# Altium integrated library STMicroelectronics Sensors & MEMS.IntLib: 81 symbols (part 2 of 2)
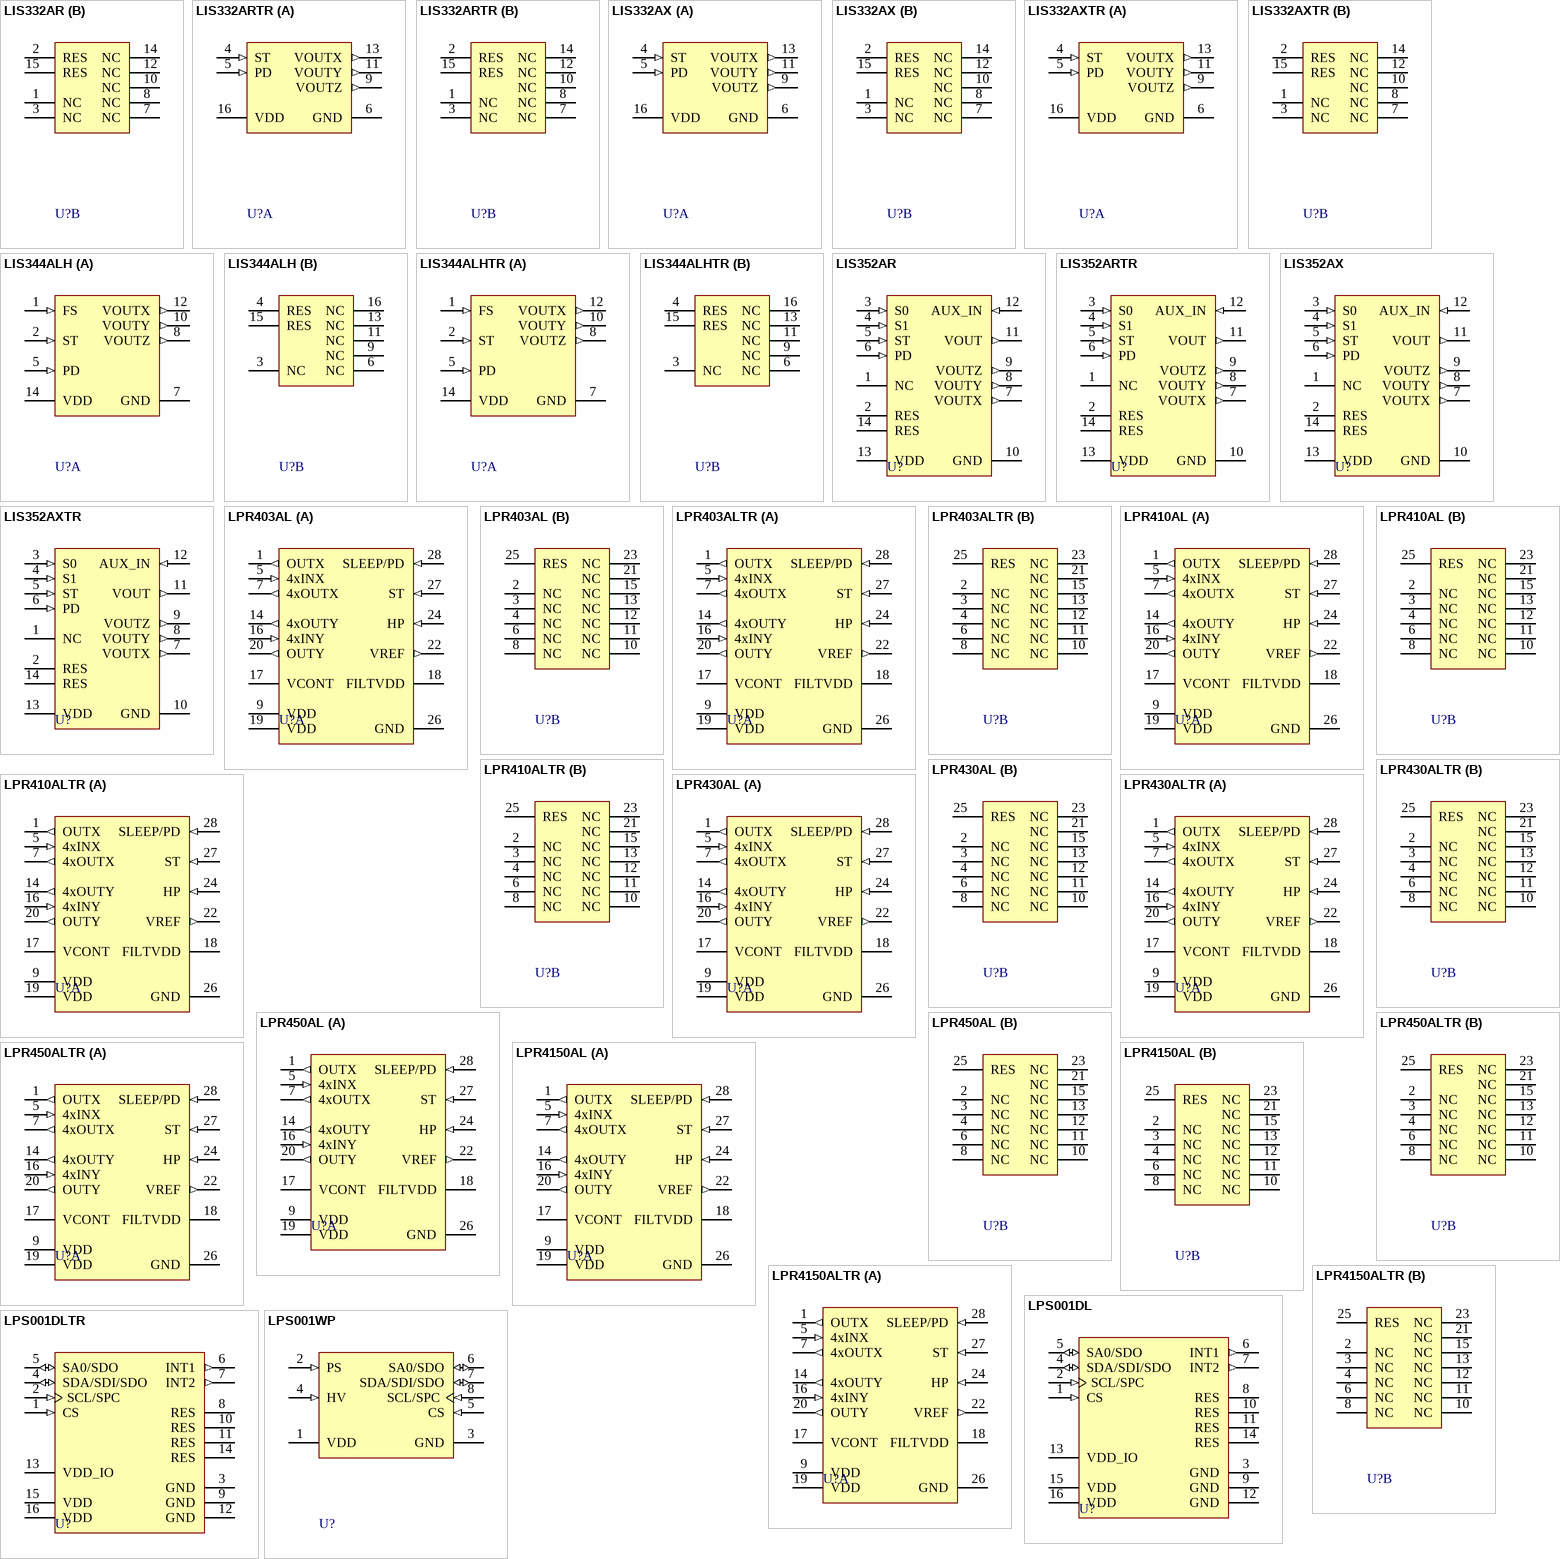
[diagram p4: symbols LIS332AR to LPS001WP]

## LPR410AL
designator U?
MEMS motion sensor: dual-axis pitch and roll ± 100 dps analog gyroscope, -40 to +85°C, LGA-28 (4x5x1), Tray; Manufacturer: STMicroelectronics; DatasheetVersion: rev1, Oct-2009; PackageVersion: 2009; PackageReference: LGA28-4X5X1.1; PackageDescription: 28-Lead Land Grid Array Package, 4 x 5 x 1 mm Body, 0.5 mm Pitch; ComponentLink1Description: Manufacturer URL; ComponentLink1URL: http://www.st.com/; ComponentLink2Description: LPR410AL Datasheet; ComponentLink2URL: http://www.st.com/internet/com/TECHNICAL_RESOURCES/TECHNICAL_LITERATURE/DATASHEET/CD00254123.pdf; ComponentLink3Description: LPR410AL Web Page; ComponentLink3URL: http://www.st.com/internet/analog/product/248621.jsp
footprint LGA28-4X5X1.1_N (PQFN, 28-Leads, Body 5x4mm, Pitch 0.5mm, IPC Medium Density)
footprint LGA28-4X5X1.1_L (PQFN, 28-Leads, Body 5x4mm, Pitch 0.5mm, IPC High Density)
footprint LGA28-4X5X1.1_M (PQFN, 28-Leads, Body 5x4mm, Pitch 0.5mm, IPC Low Density)
part A pins: 1 OUTX (out), 5 4xINX (in), 7 4xOUTX (out), 9 VDD (power), 14 4xOUTY (out), 16 4xINY (in), 17 VCONT, 18 FILTVDD, 19 VDD (power), 20 OUTY (out), 22 VREF (out), 24 HP (in), 26 GND (power), 27 ST (in), 28 SLEEP/PD (in)
part B pins: 2 NC, 3 NC, 4 NC, 6 NC, 8 NC, 10 NC, 11 NC, 12 NC, 13 NC, 15 NC, 21 NC, 23 NC, 25 RES

## LPR410ALTR
designator U?
MEMS motion sensor: dual-axis pitch and roll ± 100 dps analog gyroscope, -40 to +85°C, LGA-28 (4x5x1), Tape and Reel; Manufacturer: STMicroelectronics; DatasheetVersion: rev1, Oct-2009; PackageVersion: 2009; PackageReference: LGA28-4X5X1.1; PackageDescription: 28-Lead Land Grid Array Package, 4 x 5 x 1 mm Body, 0.5 mm Pitch; ComponentLink1Description: Manufacturer URL; ComponentLink1URL: http://www.st.com/; ComponentLink2Description: LPR410AL Datasheet; ComponentLink2URL: http://www.st.com/internet/com/TECHNICAL_RESOURCES/TECHNICAL_LITERATURE/DATASHEET/CD00254123.pdf; ComponentLink3Description: LPR410AL Web Page; ComponentLink3URL: http://www.st.com/internet/analog/product/248621.jsp
footprint LGA28-4X5X1.1_N (PQFN, 28-Leads, Body 5x4mm, Pitch 0.5mm, IPC Medium Density)
footprint LGA28-4X5X1.1_L (PQFN, 28-Leads, Body 5x4mm, Pitch 0.5mm, IPC High Density)
footprint LGA28-4X5X1.1_M (PQFN, 28-Leads, Body 5x4mm, Pitch 0.5mm, IPC Low Density)
part A pins: 1 OUTX (out), 5 4xINX (in), 7 4xOUTX (out), 9 VDD (power), 14 4xOUTY (out), 16 4xINY (in), 17 VCONT, 18 FILTVDD, 19 VDD (power), 20 OUTY (out), 22 VREF (out), 24 HP (in), 26 GND (power), 27 ST (in), 28 SLEEP/PD (in)
part B pins: 2 NC, 3 NC, 4 NC, 6 NC, 8 NC, 10 NC, 11 NC, 12 NC, 13 NC, 15 NC, 21 NC, 23 NC, 25 RES

## LPR430AL
designator U?
MEMS motion sensor: dual-axis pitch and roll ± 300 dps analog gyroscope, -40 to +85°C, LGA-28 (4x5x1), Tray; Manufacturer: STMicroelectronics; DatasheetVersion: rev1, Oct-2009; PackageVersion: 2009; PackageReference: LGA28-4X5X1.1; PackageDescription: 28-Lead Land Grid Array Package, 4 x 5 x 1 mm Body, 0.5 mm Pitch; ComponentLink1Description: Manufacturer URL; ComponentLink1URL: http://www.st.com/; ComponentLink2Description: LPR430AL Datasheet; ComponentLink2URL: http://www.st.com/internet/com/TECHNICAL_RESOURCES/TECHNICAL_LITERATURE/DATASHEET/CD00254127.pdf; ComponentLink3Description: LPR430AL Web Page; ComponentLink3URL: http://www.st.com/internet/analog/product/248610.jsp
footprint LGA28-4X5X1.1_N (PQFN, 28-Leads, Body 5x4mm, Pitch 0.5mm, IPC Medium Density)
footprint LGA28-4X5X1.1_L (PQFN, 28-Leads, Body 5x4mm, Pitch 0.5mm, IPC High Density)
footprint LGA28-4X5X1.1_M (PQFN, 28-Leads, Body 5x4mm, Pitch 0.5mm, IPC Low Density)
part A pins: 1 OUTX (out), 5 4xINX (in), 7 4xOUTX (out), 9 VDD (power), 14 4xOUTY (out), 16 4xINY (in), 17 VCONT, 18 FILTVDD, 19 VDD (power), 20 OUTY (out), 22 VREF (out), 24 HP (in), 26 GND (power), 27 ST (in), 28 SLEEP/PD (in)
part B pins: 2 NC, 3 NC, 4 NC, 6 NC, 8 NC, 10 NC, 11 NC, 12 NC, 13 NC, 15 NC, 21 NC, 23 NC, 25 RES

## LPR430ALTR
designator U?
MEMS motion sensor: dual-axis pitch and roll ± 300 dps analog gyroscope, -40 to +85°C, LGA-28 (4x5x1), Tape and Reel; Manufacturer: STMicroelectronics; DatasheetVersion: rev1, Oct-2009; PackageVersion: 2009; PackageReference: LGA28-4X5X1.1; PackageDescription: 28-Lead Land Grid Array Package, 4 x 5 x 1 mm Body, 0.5 mm Pitch; ComponentLink1Description: Manufacturer URL; ComponentLink1URL: http://www.st.com/; ComponentLink2Description: LPR430AL Datasheet; ComponentLink2URL: http://www.st.com/internet/com/TECHNICAL_RESOURCES/TECHNICAL_LITERATURE/DATASHEET/CD00254127.pdf; ComponentLink3Description: LPR430AL Web Page; ComponentLink3URL: http://www.st.com/internet/analog/product/248610.jsp
footprint LGA28-4X5X1.1_N (PQFN, 28-Leads, Body 5x4mm, Pitch 0.5mm, IPC Medium Density)
footprint LGA28-4X5X1.1_L (PQFN, 28-Leads, Body 5x4mm, Pitch 0.5mm, IPC High Density)
footprint LGA28-4X5X1.1_M (PQFN, 28-Leads, Body 5x4mm, Pitch 0.5mm, IPC Low Density)
part A pins: 1 OUTX (out), 5 4xINX (in), 7 4xOUTX (out), 9 VDD (power), 14 4xOUTY (out), 16 4xINY (in), 17 VCONT, 18 FILTVDD, 19 VDD (power), 20 OUTY (out), 22 VREF (out), 24 HP (in), 26 GND (power), 27 ST (in), 28 SLEEP/PD (in)
part B pins: 2 NC, 3 NC, 4 NC, 6 NC, 8 NC, 10 NC, 11 NC, 12 NC, 13 NC, 15 NC, 21 NC, 23 NC, 25 RES

## LPR450AL
designator U?
MEMS motion sensor: dual-axis pitch and roll ± 500 dps analog gyroscope, -40 to +85°C, LGA-28 (4x5x1), Tray; Manufacturer: STMicroelectronics; DatasheetVersion: rev1, Oct-2009; PackageVersion: 2009; PackageReference: LGA28-4X5X1.1; PackageDescription: 28-Lead Land Grid Array Package, 4 x 5 x 1 mm Body, 0.5 mm Pitch; ComponentLink1Description: Manufacturer URL; ComponentLink1URL: http://www.st.com/; ComponentLink2Description: LPR450AL Datasheet; ComponentLink2URL: http://www.st.com/internet/com/TECHNICAL_RESOURCES/TECHNICAL_LITERATURE/DATASHEET/CD00254130.pdf; ComponentLink3Description: LPR450AL Web Page; ComponentLink3URL: http://www.st.com/internet/analog/product/248611.jsp
footprint LGA28-4X5X1.1_N (PQFN, 28-Leads, Body 5x4mm, Pitch 0.5mm, IPC Medium Density)
footprint LGA28-4X5X1.1_L (PQFN, 28-Leads, Body 5x4mm, Pitch 0.5mm, IPC High Density)
footprint LGA28-4X5X1.1_M (PQFN, 28-Leads, Body 5x4mm, Pitch 0.5mm, IPC Low Density)
part A pins: 1 OUTX (out), 5 4xINX (in), 7 4xOUTX (out), 9 VDD (power), 14 4xOUTY (out), 16 4xINY (in), 17 VCONT, 18 FILTVDD, 19 VDD (power), 20 OUTY (out), 22 VREF (out), 24 HP (in), 26 GND (power), 27 ST (in), 28 SLEEP/PD (in)
part B pins: 2 NC, 3 NC, 4 NC, 6 NC, 8 NC, 10 NC, 11 NC, 12 NC, 13 NC, 15 NC, 21 NC, 23 NC, 25 RES

## LPR450ALTR
designator U?
MEMS motion sensor: dual-axis pitch and roll ± 500 dps analog gyroscope, -40 to +85°C, LGA-28 (4x5x1), Tape and Reel; Manufacturer: STMicroelectronics; DatasheetVersion: rev1, Oct-2009; PackageVersion: 2009; PackageReference: LGA28-4X5X1.1; PackageDescription: 28-Lead Land Grid Array Package, 4 x 5 x 1 mm Body, 0.5 mm Pitch; ComponentLink1Description: Manufacturer URL; ComponentLink1URL: http://www.st.com/; ComponentLink2Description: LPR450AL Datasheet; ComponentLink2URL: http://www.st.com/internet/com/TECHNICAL_RESOURCES/TECHNICAL_LITERATURE/DATASHEET/CD00254130.pdf; ComponentLink3Description: LPR450AL Web Page; ComponentLink3URL: http://www.st.com/internet/analog/product/248611.jsp
footprint LGA28-4X5X1.1_N (PQFN, 28-Leads, Body 5x4mm, Pitch 0.5mm, IPC Medium Density)
footprint LGA28-4X5X1.1_L (PQFN, 28-Leads, Body 5x4mm, Pitch 0.5mm, IPC High Density)
footprint LGA28-4X5X1.1_M (PQFN, 28-Leads, Body 5x4mm, Pitch 0.5mm, IPC Low Density)
part A pins: 1 OUTX (out), 5 4xINX (in), 7 4xOUTX (out), 9 VDD (power), 14 4xOUTY (out), 16 4xINY (in), 17 VCONT, 18 FILTVDD, 19 VDD (power), 20 OUTY (out), 22 VREF (out), 24 HP (in), 26 GND (power), 27 ST (in), 28 SLEEP/PD (in)
part B pins: 2 NC, 3 NC, 4 NC, 6 NC, 8 NC, 10 NC, 11 NC, 12 NC, 13 NC, 15 NC, 21 NC, 23 NC, 25 RES

## LPR4150AL
designator U?
MEMS motion sensor: dual-axis pitch and roll ± 1500 dps analog gyroscope, -40 to +85°C, LGA-28 (4x5x1), Tray; Manufacturer: STMicroelectronics; DatasheetVersion: rev1, Oct-2009; PackageVersion: 2009; PackageReference: LGA28-4X5X1.1; PackageDescription: 28-Lead Land Grid Array Package, 4 x 5 x 1 mm Body, 0.5 mm Pitch; ComponentLink1Description: Manufacturer URL; ComponentLink1URL: http://www.st.com/; ComponentLink2Description: LPR4150AL Datasheet; ComponentLink2URL: http://www.st.com/internet/com/TECHNICAL_RESOURCES/TECHNICAL_LITERATURE/DATASHEET/CD00254134.pdf; ComponentLink3Description: LPR4150AL Web Page; ComponentLink3URL: http://www.st.com/internet/analog/product/248612.jsp
footprint LGA28-4X5X1.1_N (PQFN, 28-Leads, Body 5x4mm, Pitch 0.5mm, IPC Medium Density)
footprint LGA28-4X5X1.1_L (PQFN, 28-Leads, Body 5x4mm, Pitch 0.5mm, IPC High Density)
footprint LGA28-4X5X1.1_M (PQFN, 28-Leads, Body 5x4mm, Pitch 0.5mm, IPC Low Density)
part A pins: 1 OUTX (out), 5 4xINX (in), 7 4xOUTX (out), 9 VDD (power), 14 4xOUTY (out), 16 4xINY (in), 17 VCONT, 18 FILTVDD, 19 VDD (power), 20 OUTY (out), 22 VREF (out), 24 HP (in), 26 GND (power), 27 ST (in), 28 SLEEP/PD (in)
part B pins: 2 NC, 3 NC, 4 NC, 6 NC, 8 NC, 10 NC, 11 NC, 12 NC, 13 NC, 15 NC, 21 NC, 23 NC, 25 RES

## LPR4150ALTR
designator U?
MEMS motion sensor: dual-axis pitch and roll ± 1500 dps analog gyroscope, -40 to +85°C, LGA-28 (4x5x1), Tape and Reel; Manufacturer: STMicroelectronics; DatasheetVersion: rev1, Oct-2009; PackageVersion: 2009; PackageReference: LGA28-4X5X1.1; PackageDescription: 28-Lead Land Grid Array Package, 4 x 5 x 1 mm Body, 0.5 mm Pitch; ComponentLink1Description: Manufacturer URL; ComponentLink1URL: http://www.st.com/; ComponentLink2Description: LPR4150AL Datasheet; ComponentLink2URL: http://www.st.com/internet/com/TECHNICAL_RESOURCES/TECHNICAL_LITERATURE/DATASHEET/CD00254134.pdf; ComponentLink3Description: LPR4150AL Web Page; ComponentLink3URL: http://www.st.com/internet/analog/product/248612.jsp
footprint LGA28-4X5X1.1_N (PQFN, 28-Leads, Body 5x4mm, Pitch 0.5mm, IPC Medium Density)
footprint LGA28-4X5X1.1_L (PQFN, 28-Leads, Body 5x4mm, Pitch 0.5mm, IPC High Density)
footprint LGA28-4X5X1.1_M (PQFN, 28-Leads, Body 5x4mm, Pitch 0.5mm, IPC Low Density)
part A pins: 1 OUTX (out), 5 4xINX (in), 7 4xOUTX (out), 9 VDD (power), 14 4xOUTY (out), 16 4xINY (in), 17 VCONT, 18 FILTVDD, 19 VDD (power), 20 OUTY (out), 22 VREF (out), 24 HP (in), 26 GND (power), 27 ST (in), 28 SLEEP/PD (in)
part B pins: 2 NC, 3 NC, 4 NC, 6 NC, 8 NC, 10 NC, 11 NC, 12 NC, 13 NC, 15 NC, 21 NC, 23 NC, 25 RES

## LPS001DL
designator U?
MEMS pressure sensor, 300-1100 mbar absolute digital output barometer, -40 to +85°C, HLGA 5x5 16L, Tray; Manufacturer: STMicroelectronics; DatasheetVersion: rev1, Aug-2010; PackageVersion: 2010; PackageReference: HLGA16-5x5x1; PackageDescription: 16-Lead Land Grid Array Package, 5 x 5 x 1 mm Body, 0.8 mm Pitch; ComponentLink1Description: Manufacturer URL; ComponentLink1URL: http://www.st.com/; ComponentLink2Description: LPS001DL Datasheet; ComponentLink2URL: http://www.st.com/internet/com/TECHNICAL_RESOURCES/TECHNICAL_LITERATURE/DATASHEET/CD00278859.pdf; ComponentLink3Description: LPS001DL Web Page; ComponentLink3URL: http://www.st.com/internet/analog/product/250938.jsp
footprint HLGA16-5X5X1_N (PQFN, 16-Leads, Body 5x5mm, Pitch 0.8mm, IPC Medium Density)
footprint HLGA16-5X5X1_L (PQFN, 16-Leads, Body 5x5mm, Pitch 0.8mm, IPC High Density)
footprint HLGA16-5X5X1_M (PQFN, 16-Leads, Body 5x5mm, Pitch 0.8mm, IPC Low Density)
pins: 1 CS (in), 2 SCL/SPC (in), 3 GND (power), 4 SDA/SDI/SDO (io), 5 SA0/SDO (io), 6 INT1 (out), 7 INT2 (out), 8 RES, 9 GND (power), 10 RES, 11 RES, 12 GND (power), 13 VDD_IO (power), 14 RES, 15 VDD (power), 16 VDD (power)

## LPS001DLTR
designator U?
MEMS pressure sensor, 300-1100 mbar absolute digital output barometer, -40 to +85°C, HLGA 5x5 16L, Tape and Reel; Manufacturer: STMicroelectronics; DatasheetVersion: rev1, Aug-2010; PackageVersion: 2010; PackageReference: HLGA16-5x5x1; PackageDescription: 16-Lead Land Grid Array Package, 5 x 5 x 1 mm Body, 0.8 mm Pitch; ComponentLink1Description: Manufacturer URL; ComponentLink1URL: http://www.st.com/; ComponentLink2Description: LPS001DL Datasheet; ComponentLink2URL: http://www.st.com/internet/com/TECHNICAL_RESOURCES/TECHNICAL_LITERATURE/DATASHEET/CD00278859.pdf; ComponentLink3Description: LPS001DL Web Page; ComponentLink3URL: http://www.st.com/internet/analog/product/250938.jsp
footprint HLGA16-5X5X1_N (PQFN, 16-Leads, Body 5x5mm, Pitch 0.8mm, IPC Medium Density)
footprint HLGA16-5X5X1_L (PQFN, 16-Leads, Body 5x5mm, Pitch 0.8mm, IPC High Density)
footprint HLGA16-5X5X1_M (PQFN, 16-Leads, Body 5x5mm, Pitch 0.8mm, IPC Low Density)
pins: 1 CS (in), 2 SCL/SPC (in), 3 GND (power), 4 SDA/SDI/SDO (io), 5 SA0/SDO (io), 6 INT1 (out), 7 INT2 (out), 8 RES, 9 GND (power), 10 RES, 11 RES, 12 GND (power), 13 VDD_IO (power), 14 RES, 15 VDD (power), 16 VDD (power)

## LPS001WP
designator U?
MEMS pressure sensor, 300-1100 mbar absolute digital output barometer, -40 to +85°C, HCLGA-8L (3x5x1), Tray; Manufacturer: STMicroelectronics; DatasheetVersion: rev1, Nov-2010; PackageVersion: 2010; PackageReference: HCLGA8L-3X5X1; PackageDescription: 8-Lead Plastic Land Grid Array, 3 x 5 x 1 mm Body, 1.25mm Pitch; ComponentLink1Description: Manufacturer URL; ComponentLink1URL: http://www.st.com/; ComponentLink2Description: LPS001WP Datasheet; ComponentLink2URL: http://www.st.com/internet/com/TECHNICAL_RESOURCES/TECHNICAL_LITERATURE/DATASHEET/CD00289624.pdf; ComponentLink3Description: LPS001WP Web Page; ComponentLink3URL: http://www.st.com/internet/analog/product/251247.jsp
footprint HCLGA8L-3X5X1 (SON, 8-Leads, Body 3x5mm, Pitch 1.25mm)
pins: 1 VDD (power), 2 PS (in), 3 GND (power), 4 HV (in), 5 CS (in), 6 SA0/SDO (io), 7 SDA/SDI/SDO (io), 8 SCL/SPC (in)

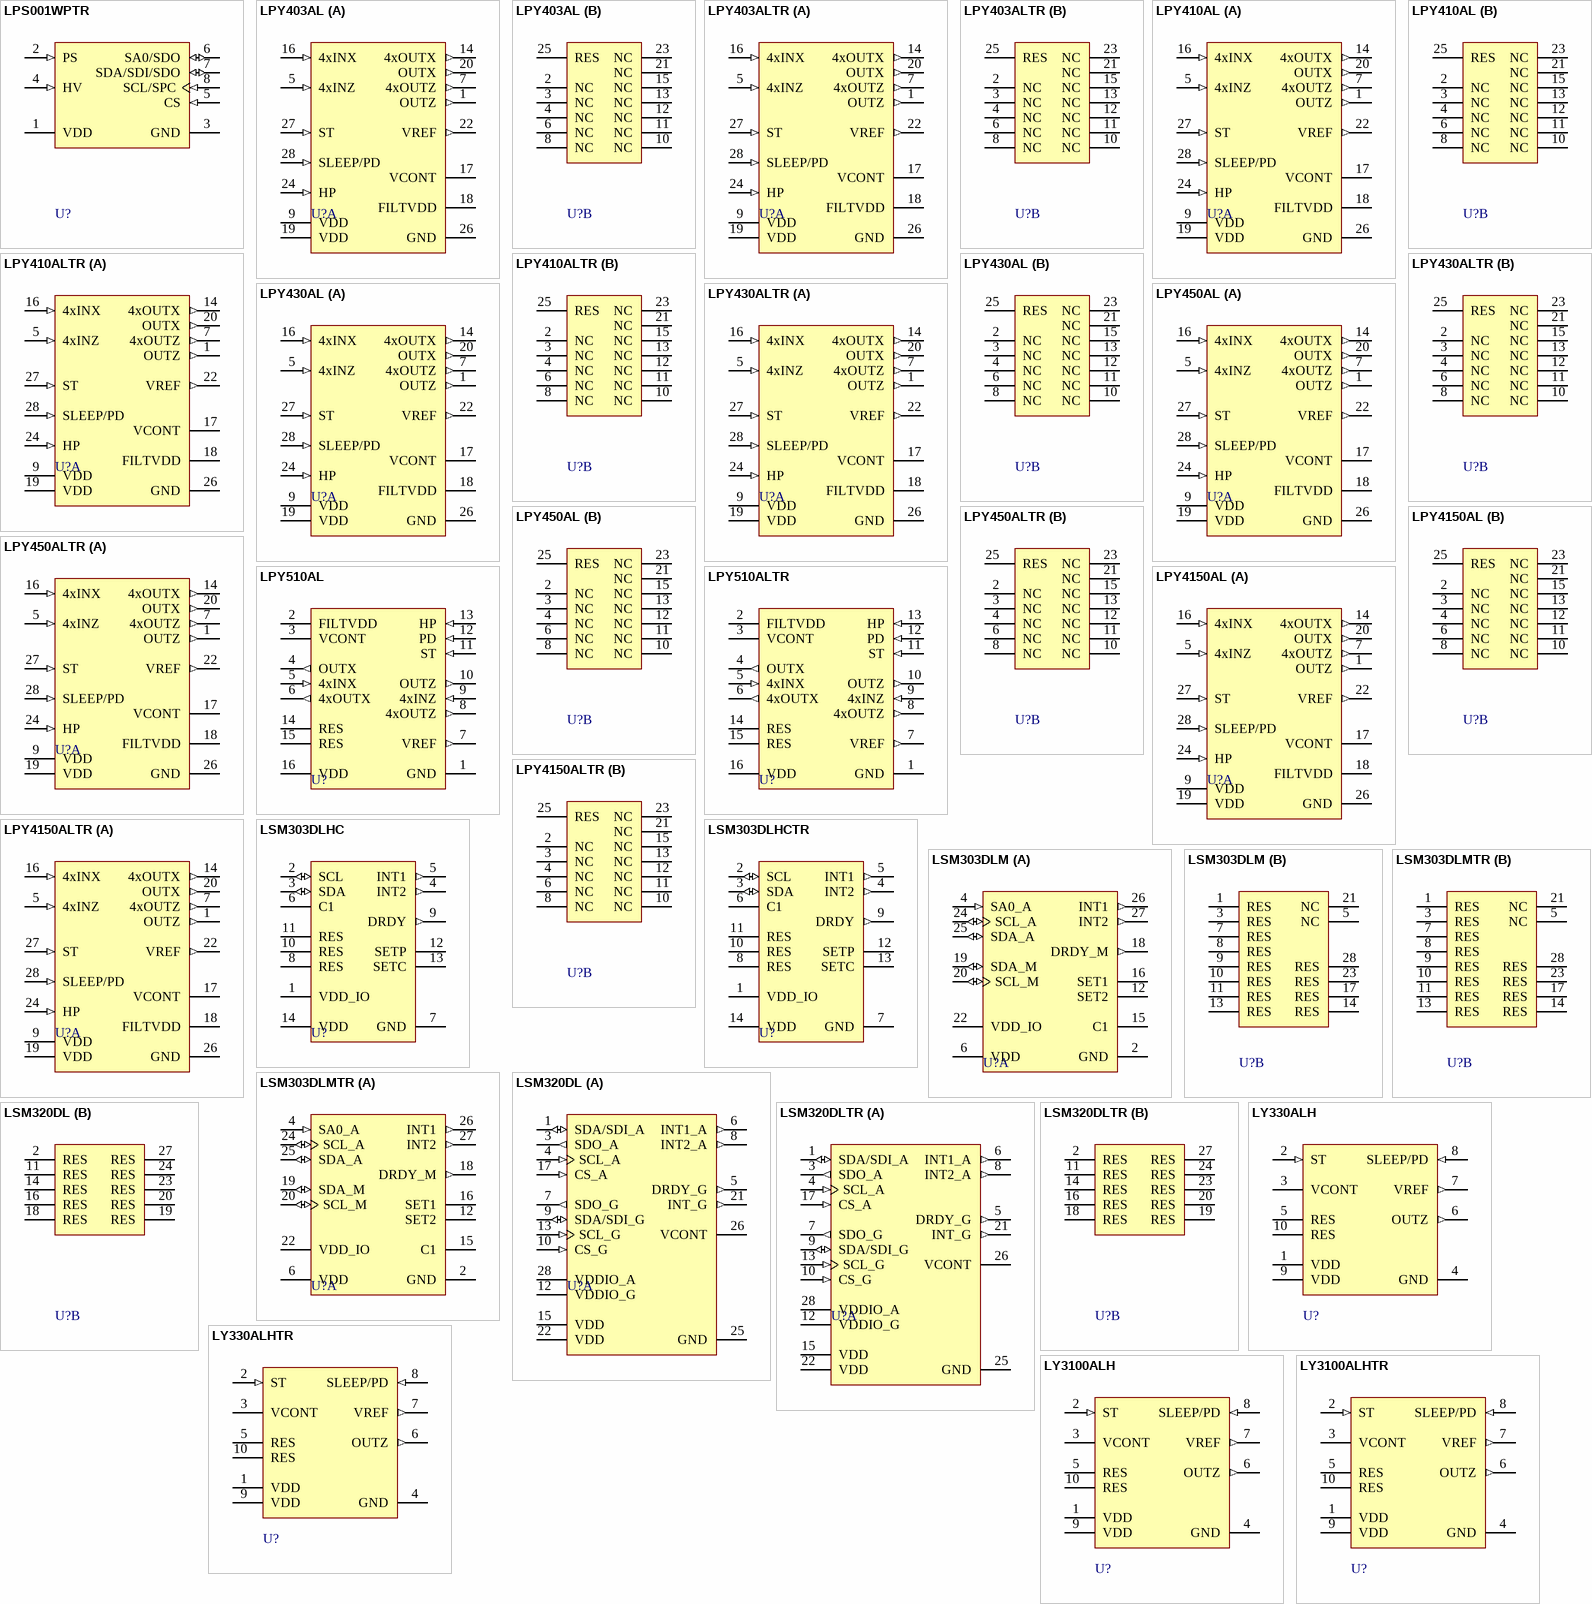
[diagram p2: symbols LPS001WPTR to LY3100ALHTR]

## LPS001WPTR
designator U?
MEMS pressure sensor, 300-1100 mbar absolute digital output barometer, -40 to +85°C, HCLGA-8L (3x5x1), Tape and Reel; Manufacturer: STMicroelectronics; DatasheetVersion: rev1, Nov-2010; PackageVersion: 2010; PackageReference: HCLGA8L-3X5X1; PackageDescription: 8-Lead Plastic Land Grid Array, 3 x 5 x 1 mm Body, 1.25mm Pitch; ComponentLink1Description: Manufacturer URL; ComponentLink1URL: http://www.st.com/; ComponentLink2Description: LPS001WP Datasheet; ComponentLink2URL: http://www.st.com/internet/com/TECHNICAL_RESOURCES/TECHNICAL_LITERATURE/DATASHEET/CD00289624.pdf; ComponentLink3Description: LPS001WP Web Page; ComponentLink3URL: http://www.st.com/internet/analog/product/251247.jsp
footprint HCLGA8L-3X5X1 (SON, 8-Leads, Body 3x5mm, Pitch 1.25mm)
pins: 1 VDD (power), 2 PS (in), 3 GND (power), 4 HV (in), 5 CS (in), 6 SA0/SDO (io), 7 SDA/SDI/SDO (io), 8 SCL/SPC (in)

## LPY403AL
designator U?
MEMS motion sensor: dual-axis pitch and yaw ± 30 dps analog gyroscope, -40 to +85°C, LGA-28 (4x5x1), Tray; Manufacturer: STMicroelectronics; DatasheetVersion: rev1, Oct-2009; PackageVersion: 2009; PackageReference: LGA28-4X5X1.1; PackageDescription: 28-Lead Land Grid Array Package, 4 x 5 x 1 mm Body, 0.5 mm Pitch; ComponentLink1Description: Manufacturer URL; ComponentLink1URL: http://www.st.com/; ComponentLink2Description: LPY403AL Datasheet; ComponentLink2URL: http://www.st.com/internet/com/TECHNICAL_RESOURCES/TECHNICAL_LITERATURE/DATASHEET/CD00254135.pdf; ComponentLink3Description: LPY403AL Web Page; ComponentLink3URL: http://www.st.com/internet/analog/product/248615.jsp
footprint LGA28-4X5X1.1_N (PQFN, 28-Leads, Body 5x4mm, Pitch 0.5mm, IPC Medium Density)
footprint LGA28-4X5X1.1_L (PQFN, 28-Leads, Body 5x4mm, Pitch 0.5mm, IPC High Density)
footprint LGA28-4X5X1.1_M (PQFN, 28-Leads, Body 5x4mm, Pitch 0.5mm, IPC Low Density)
part A pins: 1 OUTZ (out), 5 4xINZ (in), 7 4xOUTZ (out), 9 VDD (power), 14 4xOUTX (out), 16 4xINX (in), 17 VCONT, 18 FILTVDD, 19 VDD (power), 20 OUTX (out), 22 VREF (out), 24 HP (in), 26 GND (power), 27 ST (in), 28 SLEEP/PD (in)
part B pins: 2 NC, 3 NC, 4 NC, 6 NC, 8 NC, 10 NC, 11 NC, 12 NC, 13 NC, 15 NC, 21 NC, 23 NC, 25 RES

## LPY403ALTR
designator U?
MEMS motion sensor: dual-axis pitch and yaw ± 30 dps analog gyroscope, -40 to +85°C, LGA-28 (4x5x1), Tape and Reel; Manufacturer: STMicroelectronics; DatasheetVersion: rev1, Oct-2009; PackageVersion: 2009; PackageReference: LGA28-4X5X1.1; PackageDescription: 28-Lead Land Grid Array Package, 4 x 5 x 1 mm Body, 0.5 mm Pitch; ComponentLink1Description: Manufacturer URL; ComponentLink1URL: http://www.st.com/; ComponentLink2Description: LPY403AL Datasheet; ComponentLink2URL: http://www.st.com/internet/com/TECHNICAL_RESOURCES/TECHNICAL_LITERATURE/DATASHEET/CD00254135.pdf; ComponentLink3Description: LPY403AL Web Page; ComponentLink3URL: http://www.st.com/internet/analog/product/248615.jsp
footprint LGA28-4X5X1.1_N (PQFN, 28-Leads, Body 5x4mm, Pitch 0.5mm, IPC Medium Density)
footprint LGA28-4X5X1.1_L (PQFN, 28-Leads, Body 5x4mm, Pitch 0.5mm, IPC High Density)
footprint LGA28-4X5X1.1_M (PQFN, 28-Leads, Body 5x4mm, Pitch 0.5mm, IPC Low Density)
part A pins: 1 OUTZ (out), 5 4xINZ (in), 7 4xOUTZ (out), 9 VDD (power), 14 4xOUTX (out), 16 4xINX (in), 17 VCONT, 18 FILTVDD, 19 VDD (power), 20 OUTX (out), 22 VREF (out), 24 HP (in), 26 GND (power), 27 ST (in), 28 SLEEP/PD (in)
part B pins: 2 NC, 3 NC, 4 NC, 6 NC, 8 NC, 10 NC, 11 NC, 12 NC, 13 NC, 15 NC, 21 NC, 23 NC, 25 RES

## LPY410AL
designator U?
MEMS motion sensor: dual-axis pitch and yaw ± 100 dps analog gyroscope, -40 to +85°C, LGA-28 (4x5x1), Tray; Manufacturer: STMicroelectronics; DatasheetVersion: rev1, Oct-2009; PackageVersion: 2009; PackageReference: LGA28-4X5X1.1; PackageDescription: 28-Lead Land Grid Array Package, 4 x 5 x 1 mm Body, 0.5 mm Pitch; ComponentLink1Description: Manufacturer URL; ComponentLink1URL: http://www.st.com/; ComponentLink2Description: LPY410AL Datasheet; ComponentLink2URL: http://www.st.com/internet/com/TECHNICAL_RESOURCES/TECHNICAL_LITERATURE/DATASHEET/CD00254136.pdf; ComponentLink3Description: LPY410AL Web Page; ComponentLink3URL: http://www.st.com/internet/analog/product/248616.jsp
footprint LGA28-4X5X1.1_N (PQFN, 28-Leads, Body 5x4mm, Pitch 0.5mm, IPC Medium Density)
footprint LGA28-4X5X1.1_L (PQFN, 28-Leads, Body 5x4mm, Pitch 0.5mm, IPC High Density)
footprint LGA28-4X5X1.1_M (PQFN, 28-Leads, Body 5x4mm, Pitch 0.5mm, IPC Low Density)
part A pins: 1 OUTZ (out), 5 4xINZ (in), 7 4xOUTZ (out), 9 VDD (power), 14 4xOUTX (out), 16 4xINX (in), 17 VCONT, 18 FILTVDD, 19 VDD (power), 20 OUTX (out), 22 VREF (out), 24 HP (in), 26 GND (power), 27 ST (in), 28 SLEEP/PD (in)
part B pins: 2 NC, 3 NC, 4 NC, 6 NC, 8 NC, 10 NC, 11 NC, 12 NC, 13 NC, 15 NC, 21 NC, 23 NC, 25 RES

## LPY410ALTR
designator U?
MEMS motion sensor: dual-axis pitch and yaw ± 100 dps analog gyroscope, -40 to +85°C, LGA-28 (4x5x1), Tape and Reel; Manufacturer: STMicroelectronics; DatasheetVersion: rev1, Oct-2009; PackageVersion: 2009; PackageReference: LGA28-4X5X1.1; PackageDescription: 28-Lead Land Grid Array Package, 4 x 5 x 1 mm Body, 0.5 mm Pitch; ComponentLink1Description: Manufacturer URL; ComponentLink1URL: http://www.st.com/; ComponentLink2Description: LPY410AL Datasheet; ComponentLink2URL: http://www.st.com/internet/com/TECHNICAL_RESOURCES/TECHNICAL_LITERATURE/DATASHEET/CD00254136.pdf; ComponentLink3Description: LPY410AL Web Page; ComponentLink3URL: http://www.st.com/internet/analog/product/248616.jsp
footprint LGA28-4X5X1.1_N (PQFN, 28-Leads, Body 5x4mm, Pitch 0.5mm, IPC Medium Density)
footprint LGA28-4X5X1.1_L (PQFN, 28-Leads, Body 5x4mm, Pitch 0.5mm, IPC High Density)
footprint LGA28-4X5X1.1_M (PQFN, 28-Leads, Body 5x4mm, Pitch 0.5mm, IPC Low Density)
part A pins: 1 OUTZ (out), 5 4xINZ (in), 7 4xOUTZ (out), 9 VDD (power), 14 4xOUTX (out), 16 4xINX (in), 17 VCONT, 18 FILTVDD, 19 VDD (power), 20 OUTX (out), 22 VREF (out), 24 HP (in), 26 GND (power), 27 ST (in), 28 SLEEP/PD (in)
part B pins: 2 NC, 3 NC, 4 NC, 6 NC, 8 NC, 10 NC, 11 NC, 12 NC, 13 NC, 15 NC, 21 NC, 23 NC, 25 RES

## LPY430AL
designator U?
MEMS motion sensor: dual-axis pitch and yaw ± 300 dps analog gyroscope, -40 to +85°C, LGA-28 (4x5x1), Tray; Manufacturer: STMicroelectronics; DatasheetVersion: rev1, Oct-2009; PackageVersion: 2009; PackageReference: LGA28-4X5X1.1; PackageDescription: 28-Lead Land Grid Array Package, 4 x 5 x 1 mm Body, 0.5 mm Pitch; ComponentLink1Description: Manufacturer URL; ComponentLink1URL: http://www.st.com/; ComponentLink2Description: LPY430AL Datasheet; ComponentLink2URL: http://www.st.com/internet/com/TECHNICAL_RESOURCES/TECHNICAL_LITERATURE/DATASHEET/CD00254140.pdf; ComponentLink3Description: LPY430AL Web Page; ComponentLink3URL: http://www.st.com/internet/analog/product/248617.jsp
footprint LGA28-4X5X1.1_N (PQFN, 28-Leads, Body 5x4mm, Pitch 0.5mm, IPC Medium Density)
footprint LGA28-4X5X1.1_L (PQFN, 28-Leads, Body 5x4mm, Pitch 0.5mm, IPC High Density)
footprint LGA28-4X5X1.1_M (PQFN, 28-Leads, Body 5x4mm, Pitch 0.5mm, IPC Low Density)
part A pins: 1 OUTZ (out), 5 4xINZ (in), 7 4xOUTZ (out), 9 VDD (power), 14 4xOUTX (out), 16 4xINX (in), 17 VCONT, 18 FILTVDD, 19 VDD (power), 20 OUTX (out), 22 VREF (out), 24 HP (in), 26 GND (power), 27 ST (in), 28 SLEEP/PD (in)
part B pins: 2 NC, 3 NC, 4 NC, 6 NC, 8 NC, 10 NC, 11 NC, 12 NC, 13 NC, 15 NC, 21 NC, 23 NC, 25 RES

## LPY430ALTR
designator U?
MEMS motion sensor: dual-axis pitch and yaw ± 300 dps analog gyroscope, -40 to +85°C, LGA-28 (4x5x1), Tape and Reel; Manufacturer: STMicroelectronics; DatasheetVersion: rev1, Oct-2009; PackageVersion: 2009; PackageReference: LGA28-4X5X1.1; PackageDescription: 28-Lead Land Grid Array Package, 4 x 5 x 1 mm Body, 0.5 mm Pitch; ComponentLink1Description: Manufacturer URL; ComponentLink1URL: http://www.st.com/; ComponentLink2Description: LPY430AL Datasheet; ComponentLink2URL: http://www.st.com/internet/com/TECHNICAL_RESOURCES/TECHNICAL_LITERATURE/DATASHEET/CD00254140.pdf; ComponentLink3Description: LPY430AL Web Page; ComponentLink3URL: http://www.st.com/internet/analog/product/248617.jsp
footprint LGA28-4X5X1.1_N (PQFN, 28-Leads, Body 5x4mm, Pitch 0.5mm, IPC Medium Density)
footprint LGA28-4X5X1.1_L (PQFN, 28-Leads, Body 5x4mm, Pitch 0.5mm, IPC High Density)
footprint LGA28-4X5X1.1_M (PQFN, 28-Leads, Body 5x4mm, Pitch 0.5mm, IPC Low Density)
part A pins: 1 OUTZ (out), 5 4xINZ (in), 7 4xOUTZ (out), 9 VDD (power), 14 4xOUTX (out), 16 4xINX (in), 17 VCONT, 18 FILTVDD, 19 VDD (power), 20 OUTX (out), 22 VREF (out), 24 HP (in), 26 GND (power), 27 ST (in), 28 SLEEP/PD (in)
part B pins: 2 NC, 3 NC, 4 NC, 6 NC, 8 NC, 10 NC, 11 NC, 12 NC, 13 NC, 15 NC, 21 NC, 23 NC, 25 RES

## LPY450AL
designator U?
MEMS motion sensor: dual-axis pitch and yaw ± 500 dps analog gyroscope, -40 to +85°C, LGA-28 (4x5x1), Tray; Manufacturer: STMicroelectronics; DatasheetVersion: rev1, Oct-2009; PackageVersion: 2009; PackageReference: LGA28-4X5X1.1; PackageDescription: 28-Lead Land Grid Array Package, 4 x 5 x 1 mm Body, 0.5 mm Pitch; ComponentLink1Description: Manufacturer URL; ComponentLink1URL: http://www.st.com/; ComponentLink2Description: LPY450AL Datasheet; ComponentLink2URL: http://www.st.com/internet/com/TECHNICAL_RESOURCES/TECHNICAL_LITERATURE/DATASHEET/CD00254143.pdf; ComponentLink3Description: LPY450AL Web Page; ComponentLink3URL: http://www.st.com/internet/analog/product/248618.jsp
footprint LGA28-4X5X1.1_N (PQFN, 28-Leads, Body 5x4mm, Pitch 0.5mm, IPC Medium Density)
footprint LGA28-4X5X1.1_L (PQFN, 28-Leads, Body 5x4mm, Pitch 0.5mm, IPC High Density)
footprint LGA28-4X5X1.1_M (PQFN, 28-Leads, Body 5x4mm, Pitch 0.5mm, IPC Low Density)
part A pins: 1 OUTZ (out), 5 4xINZ (in), 7 4xOUTZ (out), 9 VDD (power), 14 4xOUTX (out), 16 4xINX (in), 17 VCONT, 18 FILTVDD, 19 VDD (power), 20 OUTX (out), 22 VREF (out), 24 HP (in), 26 GND (power), 27 ST (in), 28 SLEEP/PD (in)
part B pins: 2 NC, 3 NC, 4 NC, 6 NC, 8 NC, 10 NC, 11 NC, 12 NC, 13 NC, 15 NC, 21 NC, 23 NC, 25 RES

## LPY450ALTR
designator U?
MEMS motion sensor: dual-axis pitch and yaw ± 500 dps analog gyroscope, -40 to +85°C, LGA-28 (4x5x1), Tape and Reel; Manufacturer: STMicroelectronics; DatasheetVersion: rev1, Oct-2009; PackageVersion: 2009; PackageReference: LGA28-4X5X1.1; PackageDescription: 28-Lead Land Grid Array Package, 4 x 5 x 1 mm Body, 0.5 mm Pitch; ComponentLink1Description: Manufacturer URL; ComponentLink1URL: http://www.st.com/; ComponentLink2Description: LPY450AL Datasheet; ComponentLink2URL: http://www.st.com/internet/com/TECHNICAL_RESOURCES/TECHNICAL_LITERATURE/DATASHEET/CD00254143.pdf; ComponentLink3Description: LPY450AL Web Page; ComponentLink3URL: http://www.st.com/internet/analog/product/248618.jsp
footprint LGA28-4X5X1.1_N (PQFN, 28-Leads, Body 5x4mm, Pitch 0.5mm, IPC Medium Density)
footprint LGA28-4X5X1.1_L (PQFN, 28-Leads, Body 5x4mm, Pitch 0.5mm, IPC High Density)
footprint LGA28-4X5X1.1_M (PQFN, 28-Leads, Body 5x4mm, Pitch 0.5mm, IPC Low Density)
part A pins: 1 OUTZ (out), 5 4xINZ (in), 7 4xOUTZ (out), 9 VDD (power), 14 4xOUTX (out), 16 4xINX (in), 17 VCONT, 18 FILTVDD, 19 VDD (power), 20 OUTX (out), 22 VREF (out), 24 HP (in), 26 GND (power), 27 ST (in), 28 SLEEP/PD (in)
part B pins: 2 NC, 3 NC, 4 NC, 6 NC, 8 NC, 10 NC, 11 NC, 12 NC, 13 NC, 15 NC, 21 NC, 23 NC, 25 RES

## LPY510AL
designator U?
MEMS motion sensor: dual axis pitch and yaw ± 100°/s analog gyroscope, -40 to +85°C, LGA-16 (5x5x1.5), Tray; Manufacturer: STMicroelectronics; DatasheetVersion: rev2, Jul-2009; PackageVersion: 2009; PackageReference: LGA16-5X5X1.5; PackageDescription: 16-Lead Land Grid Array Package, 5 x 5 x 1.5 mm Body, 0.8 mm Pitch; ComponentLink1Description: Manufacturer URL; ComponentLink1URL: http://www.st.com/; ComponentLink2Description: LPY510AL Datasheet; ComponentLink2URL: http://www.st.com/internet/com/TECHNICAL_RESOURCES/TECHNICAL_LITERATURE/DATASHEET/CD00237200.pdf; ComponentLink3Description: LPY510AL Web Page; ComponentLink3URL: http://www.st.com/internet/analog/product/245358.jsp
footprint LGA16-5X5X1.5_N (PQFN, 16-Leads, Body 5x5mm, Pitch 0.8mm, IPC Medium Density)
footprint LGA16-5X5X1.5_L (PQFN, 16-Leads, Body 5x5mm, Pitch 0.8mm, IPC High Density)
footprint LGA16-5X5X1.5_M (PQFN, 16-Leads, Body 5x5mm, Pitch 0.8mm, IPC Low Density)
pins: 1 GND (power), 2 FILTVDD, 3 VCONT, 4 OUTX (out), 5 4xINX (in), 6 4xOUTX (out), 7 VREF (out), 8 4xOUTZ (out), 9 4xINZ (in), 10 OUTZ (out), 11 ST (in), 12 PD (in), 13 HP (in), 14 RES, 15 RES, 16 VDD (power)

## LPY510ALTR
designator U?
MEMS motion sensor: dual axis pitch and yaw ± 100°/s analog gyroscope, -40 to +85°C, LGA-16 (5x5x1.5), Tape and Reel; Manufacturer: STMicroelectronics; DatasheetVersion: rev2, Jul-2009; PackageVersion: 2009; PackageReference: LGA16-5X5X1.5; PackageDescription: 16-Lead Land Grid Array Package, 5 x 5 x 1.5 mm Body, 0.8 mm Pitch; ComponentLink1Description: Manufacturer URL; ComponentLink1URL: http://www.st.com/; ComponentLink2Description: LPY510AL Datasheet; ComponentLink2URL: http://www.st.com/internet/com/TECHNICAL_RESOURCES/TECHNICAL_LITERATURE/DATASHEET/CD00237200.pdf; ComponentLink3Description: LPY510AL Web Page; ComponentLink3URL: http://www.st.com/internet/analog/product/245358.jsp
footprint LGA16-5X5X1.5_N (PQFN, 16-Leads, Body 5x5mm, Pitch 0.8mm, IPC Medium Density)
footprint LGA16-5X5X1.5_L (PQFN, 16-Leads, Body 5x5mm, Pitch 0.8mm, IPC High Density)
footprint LGA16-5X5X1.5_M (PQFN, 16-Leads, Body 5x5mm, Pitch 0.8mm, IPC Low Density)
pins: 1 GND (power), 2 FILTVDD, 3 VCONT, 4 OUTX (out), 5 4xINX (in), 6 4xOUTX (out), 7 VREF (out), 8 4xOUTZ (out), 9 4xINZ (in), 10 OUTZ (out), 11 ST (in), 12 PD (in), 13 HP (in), 14 RES, 15 RES, 16 VDD (power)

## LPY4150AL
designator U?
MEMS motion sensor: dual-axis pitch and yaw ± 1500 dps analog gyroscope, -40 to +85°C, LGA-28 (4x5x1), Tray; Manufacturer: STMicroelectronics; DatasheetVersion: rev1, Oct-2009; PackageVersion: 2009; PackageReference: LGA28-4X5X1.1; PackageDescription: 28-Lead Land Grid Array Package, 4 x 5 x 1 mm Body, 0.5 mm Pitch; ComponentLink1Description: Manufacturer URL; ComponentLink1URL: http://www.st.com/; ComponentLink2Description: LPY4150AL Datasheet; ComponentLink2URL: http://www.st.com/internet/com/TECHNICAL_RESOURCES/TECHNICAL_LITERATURE/DATASHEET/CD00254147.pdf; ComponentLink3Description: LPY4150AL Web Page; ComponentLink3URL: http://www.st.com/internet/analog/product/248619.jsp
footprint LGA28-4X5X1.1_N (PQFN, 28-Leads, Body 5x4mm, Pitch 0.5mm, IPC Medium Density)
footprint LGA28-4X5X1.1_L (PQFN, 28-Leads, Body 5x4mm, Pitch 0.5mm, IPC High Density)
footprint LGA28-4X5X1.1_M (PQFN, 28-Leads, Body 5x4mm, Pitch 0.5mm, IPC Low Density)
part A pins: 1 OUTZ (out), 5 4xINZ (in), 7 4xOUTZ (out), 9 VDD (power), 14 4xOUTX (out), 16 4xINX (in), 17 VCONT, 18 FILTVDD, 19 VDD (power), 20 OUTX (out), 22 VREF (out), 24 HP (in), 26 GND (power), 27 ST (in), 28 SLEEP/PD (in)
part B pins: 2 NC, 3 NC, 4 NC, 6 NC, 8 NC, 10 NC, 11 NC, 12 NC, 13 NC, 15 NC, 21 NC, 23 NC, 25 RES

## LPY4150ALTR
designator U?
MEMS motion sensor: dual-axis pitch and yaw ± 1500 dps analog gyroscope, -40 to +85°C, LGA-28 (4x5x1), Tape and Reel; Manufacturer: STMicroelectronics; DatasheetVersion: rev1, Oct-2009; PackageVersion: 2009; PackageReference: LGA28-4X5X1.1; PackageDescription: 28-Lead Land Grid Array Package, 4 x 5 x 1 mm Body, 0.5 mm Pitch; ComponentLink1Description: Manufacturer URL; ComponentLink1URL: http://www.st.com/; ComponentLink2Description: LPY4150AL Datasheet; ComponentLink2URL: http://www.st.com/internet/com/TECHNICAL_RESOURCES/TECHNICAL_LITERATURE/DATASHEET/CD00254147.pdf; ComponentLink3Description: LPY4150AL Web Page; ComponentLink3URL: http://www.st.com/internet/analog/product/248619.jsp
footprint LGA28-4X5X1.1_N (PQFN, 28-Leads, Body 5x4mm, Pitch 0.5mm, IPC Medium Density)
footprint LGA28-4X5X1.1_L (PQFN, 28-Leads, Body 5x4mm, Pitch 0.5mm, IPC High Density)
footprint LGA28-4X5X1.1_M (PQFN, 28-Leads, Body 5x4mm, Pitch 0.5mm, IPC Low Density)
part A pins: 1 OUTZ (out), 5 4xINZ (in), 7 4xOUTZ (out), 9 VDD (power), 14 4xOUTX (out), 16 4xINX (in), 17 VCONT, 18 FILTVDD, 19 VDD (power), 20 OUTX (out), 22 VREF (out), 24 HP (in), 26 GND (power), 27 ST (in), 28 SLEEP/PD (in)
part B pins: 2 NC, 3 NC, 4 NC, 6 NC, 8 NC, 10 NC, 11 NC, 12 NC, 13 NC, 15 NC, 21 NC, 23 NC, 25 RES

## LSM303DLHC
designator U?
Ultra compact high performance e-compass: 3D accelerometer and 3D magnetometer module, -40 to +85°C, LGA-14 (3x5x1), Tray; Manufacturer: STMicroelectronics; DatasheetVersion: rev1, Apr-2011; PackageVersion: 2011; PackageReference: LGA14-3X5X1; PackageDescription: 14-Lead Land Grid Array Package, 5 x 3 x 1 mm Body, 0.8 mm Pitch; ComponentLink1Description: Manufacturer URL; ComponentLink1URL: http://www.st.com/; ComponentLink2Description: LSM303DLHC Datasheet; ComponentLink2URL: http://www.st.com/internet/com/TECHNICAL_RESOURCES/TECHNICAL_LITERATURE/DATASHEET/DM00027543.pdf; ComponentLink3Description: LSM303DLHC Web Page; ComponentLink3URL: http://www.st.com/internet/analog/product/251940.jsp
footprint LGA14-3X5X1_N (PQFN, 14-Leads, Body 3x5mm, Pitch 0.8mm, IPC Medium Density)
footprint LGA14-3X5X1_L (PQFN, 14-Leads, Body 3x5mm, Pitch 0.8mm, IPC High Density)
footprint LGA14-3X5X1_M (PQFN, 14-Leads, Body 3x5mm, Pitch 0.8mm, IPC Low Density)
pins: 1 VDD_IO (power), 2 SCL (io), 3 SDA (io), 4 INT2 (out), 5 INT1 (out), 6 C1, 7 GND (power), 8 RES, 9 DRDY (out), 10 RES, 11 RES, 12 SETP, 13 SETC, 14 VDD (power)

## LSM303DLHCTR
designator U?
Ultra compact high performance e-compass: 3D accelerometer and 3D magnetometer module, -40 to +85°C, LGA-14 (3x5x1), Tape and Reel; Manufacturer: STMicroelectronics; DatasheetVersion: rev1, Apr-2011; PackageVersion: 2011; PackageReference: LGA14-3X5X1; PackageDescription: 14-Lead Land Grid Array Package, 5 x 3 x 1 mm Body, 0.8 mm Pitch; ComponentLink1Description: Manufacturer URL; ComponentLink1URL: http://www.st.com/; ComponentLink2Description: LSM303DLHC Datasheet; ComponentLink2URL: http://www.st.com/internet/com/TECHNICAL_RESOURCES/TECHNICAL_LITERATURE/DATASHEET/DM00027543.pdf; ComponentLink3Description: LSM303DLHC Web Page; ComponentLink3URL: http://www.st.com/internet/analog/product/251940.jsp
footprint LGA14-3X5X1_N (PQFN, 14-Leads, Body 3x5mm, Pitch 0.8mm, IPC Medium Density)
footprint LGA14-3X5X1_L (PQFN, 14-Leads, Body 3x5mm, Pitch 0.8mm, IPC High Density)
footprint LGA14-3X5X1_M (PQFN, 14-Leads, Body 3x5mm, Pitch 0.8mm, IPC Low Density)
pins: 1 VDD_IO (power), 2 SCL (io), 3 SDA (io), 4 INT2 (out), 5 INT1 (out), 6 C1, 7 GND (power), 8 RES, 9 DRDY (out), 10 RES, 11 RES, 12 SETP, 13 SETC, 14 VDD (power)

## LSM303DLM
designator U?
Sensor module: 3-axis accelerometer and 3-axis magnetometer, -40 to +85°C, LGA-28 (5x5x1), Tray; Manufacturer: STMicroelectronics; DatasheetVersion: rev1, Apr-2011; PackageVersion: 2011; PackageReference: LGA28-5X5X1; PackageDescription: 28-Pin Land Grid Array, 5 x 5 x 1 mm Body, 0.55 mm Pitch; ComponentLink1Description: Manufacturer URL; ComponentLink1URL: http://www.st.com/; ComponentLink2Description: LSM303DLM Datasheet; ComponentLink2URL: http://www.st.com/internet/com/TECHNICAL_RESOURCES/TECHNICAL_LITERATURE/DATASHEET/DM00026454.pdf; ComponentLink3Description: LSM303DLM Web Page; ComponentLink3URL: http://www.st.com/internet/analog/product/251902.jsp
footprint LGA28-5X5X1_N (PQFN, 28-Leads, Body 5x5mm, Pitch 0.55mm, IPC Medium Density)
footprint LGA28-5X5X1_L (PQFN, 28-Leads, Body 5x5mm, Pitch 0.55mm, IPC High Density)
footprint LGA28-5X5X1_M (PQFN, 28-Leads, Body 5x5mm, Pitch 0.55mm, IPC Low Density)
part A pins: 2 GND (power), 4 SA0_A (in), 6 VDD (power), 12 SET2, 15 C1, 16 SET1, 18 DRDY_M (out), 19 SDA_M (io), 20 SCL_M (io), 22 VDD_IO (power), 24 SCL_A (io), 25 SDA_A (io), 26 INT1 (out), 27 INT2 (out)
part B pins: 1 RES, 3 RES, 5 NC, 7 RES, 8 RES, 9 RES, 10 RES, 11 RES, 13 RES, 14 RES, 17 RES, 21 NC, 23 RES, 28 RES

## LSM303DLMTR
designator U?
Sensor module: 3-axis accelerometer and 3-axis magnetometer, -40 to +85°C, LGA-28 (5x5x1), Tape and Reel; Manufacturer: STMicroelectronics; DatasheetVersion: rev1, Apr-2011; PackageVersion: 2011; PackageReference: LGA28-5X5X1; PackageDescription: 28-Pin Land Grid Array, 5 x 5 x 1 mm Body, 0.55 mm Pitch; ComponentLink1Description: Manufacturer URL; ComponentLink1URL: http://www.st.com/; ComponentLink2Description: LSM303DLM Datasheet; ComponentLink2URL: http://www.st.com/internet/com/TECHNICAL_RESOURCES/TECHNICAL_LITERATURE/DATASHEET/DM00026454.pdf; ComponentLink3Description: LSM303DLM Web Page; ComponentLink3URL: http://www.st.com/internet/analog/product/251902.jsp
footprint LGA28-5X5X1_N (PQFN, 28-Leads, Body 5x5mm, Pitch 0.55mm, IPC Medium Density)
footprint LGA28-5X5X1_L (PQFN, 28-Leads, Body 5x5mm, Pitch 0.55mm, IPC High Density)
footprint LGA28-5X5X1_M (PQFN, 28-Leads, Body 5x5mm, Pitch 0.55mm, IPC Low Density)
part A pins: 2 GND (power), 4 SA0_A (in), 6 VDD (power), 12 SET2, 15 C1, 16 SET1, 18 DRDY_M (out), 19 SDA_M (io), 20 SCL_M (io), 22 VDD_IO (power), 24 SCL_A (io), 25 SDA_A (io), 26 INT1 (out), 27 INT2 (out)
part B pins: 1 RES, 3 RES, 5 NC, 7 RES, 8 RES, 9 RES, 10 RES, 11 RES, 13 RES, 14 RES, 17 RES, 21 NC, 23 RES, 28 RES

## LSM320DL
designator U?
Linear sensor module: 3D accelerometer sensor and 2D gyroscope sensor, -40 to +85°C, LGA-28 (7.5x4.4x1.1), Tray; Manufacturer: STMicroelectronics; DatasheetVersion: rev1, May-2011; PackageVersion: 2011; PackageReference: LGA28-7.5X4.4X1.1; PackageDescription: 28-Lead Land Grid Array Package, 7.5 x 4.4 x 1.1 mm Body, 0.6 mm Pitch; ComponentLink1Description: Manufacturer URL; ComponentLink1URL: http://www.st.com/; ComponentLink2Description: LSM320DL Datasheet; ComponentLink2URL: http://www.st.com/internet/com/TECHNICAL_RESOURCES/TECHNICAL_LITERATURE/DATASHEET/DM00029499.pdf; ComponentLink3Description: LSM320DL Web Page; ComponentLink3URL: http://www.st.com/internet/analog/product/252012.jsp
footprint LGA28-7.5X4.4X1.1_N (PQFN, 28-Leads, Body 4.4x7.5mm, Pitch 0.6mm, IPC Medium Density)
footprint LGA28-7.5X4.4X1.1_L (PQFN, 28-Leads, Body 4.4x7.5mm, Pitch 0.6mm, IPC High Density)
footprint LGA28-7.5X4.4X1.1_M (PQFN, 28-Leads, Body 4.4x7.5mm, Pitch 0.6mm, IPC Low Density)
part A pins: 1 SDA/SDI_A (io), 3 SDO_A (out), 4 SCL_A (in), 5 DRDY_G (out), 6 INT1_A (out), 7 SDO_G (out), 8 INT2_A (out), 9 SDA/SDI_G (io), 10 CS_G (in), 12 VDDIO_G (power), 13 SCL_G (in), 15 VDD (power), 17 CS_A (in), 21 INT_G (out), 22 VDD (power), 25 GND (power), 26 VCONT, 28 VDDIO_A (power)
part B pins: 2 RES, 11 RES, 14 RES, 16 RES, 18 RES, 19 RES, 20 RES, 23 RES, 24 RES, 27 RES

## LSM320DLTR
designator U?
Linear sensor module: 3D accelerometer sensor and 2D gyroscope sensor, -40 to +85°C, LGA-28 (7.5x4.4x1.1), Tape and Reel; Manufacturer: STMicroelectronics; DatasheetVersion: rev1, May-2011; PackageVersion: 2011; PackageReference: LGA28-7.5X4.4X1.1; PackageDescription: 28-Lead Land Grid Array Package, 7.5 x 4.4 x 1.1 mm Body, 0.6 mm Pitch; ComponentLink1Description: Manufacturer URL; ComponentLink1URL: http://www.st.com/; ComponentLink2Description: LSM320DL Datasheet; ComponentLink2URL: http://www.st.com/internet/com/TECHNICAL_RESOURCES/TECHNICAL_LITERATURE/DATASHEET/DM00029499.pdf; ComponentLink3Description: LSM320DL Web Page; ComponentLink3URL: http://www.st.com/internet/analog/product/252012.jsp
footprint LGA28-7.5X4.4X1.1_N (PQFN, 28-Leads, Body 4.4x7.5mm, Pitch 0.6mm, IPC Medium Density)
footprint LGA28-7.5X4.4X1.1_L (PQFN, 28-Leads, Body 4.4x7.5mm, Pitch 0.6mm, IPC High Density)
footprint LGA28-7.5X4.4X1.1_M (PQFN, 28-Leads, Body 4.4x7.5mm, Pitch 0.6mm, IPC Low Density)
part A pins: 1 SDA/SDI_A (io), 3 SDO_A (out), 4 SCL_A (in), 5 DRDY_G (out), 6 INT1_A (out), 7 SDO_G (out), 8 INT2_A (out), 9 SDA/SDI_G (io), 10 CS_G (in), 12 VDDIO_G (power), 13 SCL_G (in), 15 VDD (power), 17 CS_A (in), 21 INT_G (out), 22 VDD (power), 25 GND (power), 26 VCONT, 28 VDDIO_A (power)
part B pins: 2 RES, 11 RES, 14 RES, 16 RES, 18 RES, 19 RES, 20 RES, 23 RES, 24 RES, 27 RES

## LY330ALH
designator U?
MEMS motion sensor: high performance ± 300 dps analog yaw-rate gyroscope, -40 to +85°C, LGA-10 (3x5x1), Tray; Manufacturer: STMicroelectronics; DatasheetVersion: rev2, Feb-2010; PackageVersion: 2010; PackageReference: LGA10-3X5X1; PackageDescription: 10-Lead Land Grid Array Package, 5 x 3 x 1.1 mm Body, 1.27/1.382 mm Pitch; ComponentLink1Description: Manufacturer URL; ComponentLink1URL: http://www.st.com/; ComponentLink2Description: LY330ALH Datasheet; ComponentLink2URL: http://www.st.com/internet/com/TECHNICAL_RESOURCES/TECHNICAL_LITERATURE/DATASHEET/CD00254111.pdf; ComponentLink3Description: LY330ALH Web Page; ComponentLink3URL: http://www.st.com/internet/analog/product/248613.jsp
footprint LGA10-3X5X1_N (PQFN, 10-Leads, Body 3x5mm, Pitch 1.27/1.382mm, IPC Medium Density)
footprint LGA10-3X5X1_L (PQFN, 10-Leads, Body 3x5mm, Pitch 1.27/1.382mm, IPC High Density)
footprint LGA10-3X5X1_M (PQFN, 10-Leads, Body 3x5mm, Pitch 1.27/1.382mm, IPC Low Density)
pins: 1 VDD (power), 2 ST (in), 3 VCONT, 4 GND (power), 5 RES, 6 OUTZ (out), 7 VREF (out), 8 SLEEP/PD (in), 9 VDD (power), 10 RES

## LY330ALHTR
designator U?
MEMS motion sensor: high performance ± 300 dps analog yaw-rate gyroscope, -40 to +85°C, LGA-10 (3x5x1), Tape and Reel; Manufacturer: STMicroelectronics; DatasheetVersion: rev2, Feb-2010; PackageVersion: 2010; PackageReference: LGA10-3X5X1; PackageDescription: 10-Lead Land Grid Array Package, 5 x 3 x 1.1 mm Body, 1.27/1.382 mm Pitch; ComponentLink1Description: Manufacturer URL; ComponentLink1URL: http://www.st.com/; ComponentLink2Description: LY330ALH Datasheet; ComponentLink2URL: http://www.st.com/internet/com/TECHNICAL_RESOURCES/TECHNICAL_LITERATURE/DATASHEET/CD00254111.pdf; ComponentLink3Description: LY330ALH Web Page; ComponentLink3URL: http://www.st.com/internet/analog/product/248613.jsp
footprint LGA10-3X5X1_N (PQFN, 10-Leads, Body 3x5mm, Pitch 1.27/1.382mm, IPC Medium Density)
footprint LGA10-3X5X1_L (PQFN, 10-Leads, Body 3x5mm, Pitch 1.27/1.382mm, IPC High Density)
footprint LGA10-3X5X1_M (PQFN, 10-Leads, Body 3x5mm, Pitch 1.27/1.382mm, IPC Low Density)
pins: 1 VDD (power), 2 ST (in), 3 VCONT, 4 GND (power), 5 RES, 6 OUTZ (out), 7 VREF (out), 8 SLEEP/PD (in), 9 VDD (power), 10 RES

## LY3100ALH
designator U?
MEMS motion sensor: high performance ± 1000 dps analog yaw-rate gyroscope, -40 to +85°C, LGA-10 (3x5x1), Tray; Manufacturer: STMicroelectronics; DatasheetVersion: rev1, Oct-2009; PackageVersion: 2010; PackageReference: LGA10-3X5X1; PackageDescription: 10-Lead Land Grid Array Package, 5 x 3 x 1.1 mm Body, 1.27/1.382 mm Pitch; ComponentLink1Description: Manufacturer URL; ComponentLink1URL: http://www.st.com/; ComponentLink2Description: LY3100ALH Datasheet; ComponentLink2URL: http://www.st.com/internet/com/TECHNICAL_RESOURCES/TECHNICAL_LITERATURE/DATASHEET/CD00254115.pdf; ComponentLink3Description: LY3100ALH Web Page; ComponentLink3URL: http://www.st.com/internet/analog/product/248614.jsp
footprint LGA10-3X5X1_N (PQFN, 10-Leads, Body 3x5mm, Pitch 1.27/1.382mm, IPC Medium Density)
footprint LGA10-3X5X1_L (PQFN, 10-Leads, Body 3x5mm, Pitch 1.27/1.382mm, IPC High Density)
footprint LGA10-3X5X1_M (PQFN, 10-Leads, Body 3x5mm, Pitch 1.27/1.382mm, IPC Low Density)
pins: 1 VDD (power), 2 ST (in), 3 VCONT, 4 GND (power), 5 RES, 6 OUTZ (out), 7 VREF (out), 8 SLEEP/PD (in), 9 VDD (power), 10 RES

## LY3100ALHTR
designator U?
MEMS motion sensor: high performance ± 1000 dps analog yaw-rate gyroscope, -40 to +85°C, LGA-10 (3x5x1), Tape and Reel; Manufacturer: STMicroelectronics; DatasheetVersion: rev1, Oct-2009; PackageVersion: 2010; PackageReference: LGA10-3X5X1; PackageDescription: 10-Lead Land Grid Array Package, 5 x 3 x 1.1 mm Body, 1.27/1.382 mm Pitch; ComponentLink1Description: Manufacturer URL; ComponentLink1URL: http://www.st.com/; ComponentLink2Description: LY3100ALH Datasheet; ComponentLink2URL: http://www.st.com/internet/com/TECHNICAL_RESOURCES/TECHNICAL_LITERATURE/DATASHEET/CD00254115.pdf; ComponentLink3Description: LY3100ALH Web Page; ComponentLink3URL: http://www.st.com/internet/analog/product/248614.jsp
footprint LGA10-3X5X1_N (PQFN, 10-Leads, Body 3x5mm, Pitch 1.27/1.382mm, IPC Medium Density)
footprint LGA10-3X5X1_L (PQFN, 10-Leads, Body 3x5mm, Pitch 1.27/1.382mm, IPC High Density)
footprint LGA10-3X5X1_M (PQFN, 10-Leads, Body 3x5mm, Pitch 1.27/1.382mm, IPC Low Density)
pins: 1 VDD (power), 2 ST (in), 3 VCONT, 4 GND (power), 5 RES, 6 OUTZ (out), 7 VREF (out), 8 SLEEP/PD (in), 9 VDD (power), 10 RES

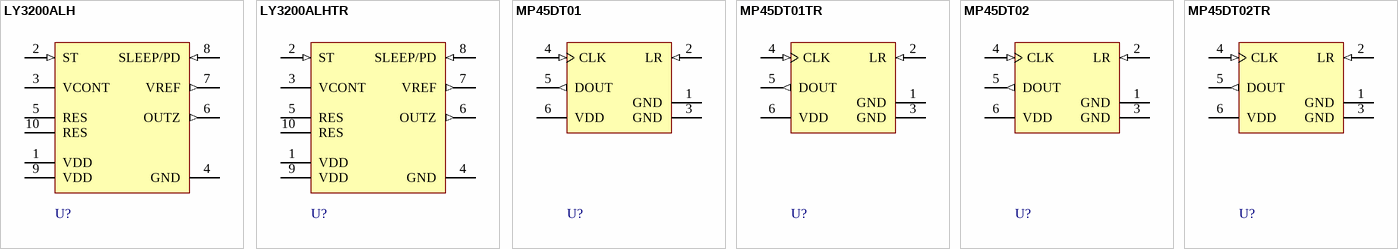
[diagram p3: symbols LY3200ALH to MP45DT02TR]

## LY3200ALH
designator U?
MEMS motion sensor: high performance ± 2000 dps analog yaw-rate gyroscope, -40 to +85°C, LGA-10 (3x5x1), Tray; Manufacturer: STMicroelectronics; DatasheetVersion: rev1, Oct-2009; PackageVersion: 2010; PackageReference: LGA10-3X5X1; PackageDescription: 10-Lead Land Grid Array Package, 5 x 3 x 1.1 mm Body, 1.27/1.382 mm Pitch; ComponentLink1Description: Manufacturer URL; ComponentLink1URL: http://www.st.com/; ComponentLink2Description: LY3200ALH Datasheet; ComponentLink2URL: http://www.st.com/internet/com/TECHNICAL_RESOURCES/TECHNICAL_LITERATURE/DATASHEET/CD00254118.pdf; ComponentLink3Description: LY3200ALH Web Page; ComponentLink3URL: http://www.st.com/internet/analog/product/248609.jsp
footprint LGA10-3X5X1_N (PQFN, 10-Leads, Body 3x5mm, Pitch 1.27/1.382mm, IPC Medium Density)
footprint LGA10-3X5X1_L (PQFN, 10-Leads, Body 3x5mm, Pitch 1.27/1.382mm, IPC High Density)
footprint LGA10-3X5X1_M (PQFN, 10-Leads, Body 3x5mm, Pitch 1.27/1.382mm, IPC Low Density)
pins: 1 VDD (power), 2 ST (in), 3 VCONT, 4 GND (power), 5 RES, 6 OUTZ (out), 7 VREF (out), 8 SLEEP/PD (in), 9 VDD (power), 10 RES

## LY3200ALHTR
designator U?
MEMS motion sensor: high performance ± 2000 dps analog yaw-rate gyroscope, -40 to +85°C, LGA-10 (3x5x1), Tape and Reel; Manufacturer: STMicroelectronics; DatasheetVersion: rev1, Oct-2009; PackageVersion: 2010; PackageReference: LGA10-3X5X1; PackageDescription: 10-Lead Land Grid Array Package, 5 x 3 x 1.1 mm Body, 1.27/1.382 mm Pitch; ComponentLink1Description: Manufacturer URL; ComponentLink1URL: http://www.st.com/; ComponentLink2Description: LY3200ALH Datasheet; ComponentLink2URL: http://www.st.com/internet/com/TECHNICAL_RESOURCES/TECHNICAL_LITERATURE/DATASHEET/CD00254118.pdf; ComponentLink3Description: LY3200ALH Web Page; ComponentLink3URL: http://www.st.com/internet/analog/product/248609.jsp
footprint LGA10-3X5X1_N (PQFN, 10-Leads, Body 3x5mm, Pitch 1.27/1.382mm, IPC Medium Density)
footprint LGA10-3X5X1_L (PQFN, 10-Leads, Body 3x5mm, Pitch 1.27/1.382mm, IPC High Density)
footprint LGA10-3X5X1_M (PQFN, 10-Leads, Body 3x5mm, Pitch 1.27/1.382mm, IPC Low Density)
pins: 1 VDD (power), 2 ST (in), 3 VCONT, 4 GND (power), 5 RES, 6 OUTZ (out), 7 VREF (out), 8 SLEEP/PD (in), 9 VDD (power), 10 RES

## MP45DT01
designator U?
MEMS audio sensor, omni-directional digital microphone, -30 to +85°C, HLGA 4.72x3.76 6LD, Tray; Manufacturer: STMicroelectronics; DatasheetVersion: rev1, Aug-2010; PackageVersion: 2010; PackageReference: HLGA6-4.72X3.76X1.1; PackageDescription: 6-Lead Land Grid Array 4.72 x 3.72 x 1 mm Body, 1.65mm Pitch; ComponentLink1Description: Manufacturer URL; ComponentLink1URL: http://www.st.com/; ComponentLink2Description: MP45DT01 Datasheet; ComponentLink2URL: http://www.st.com/internet/com/TECHNICAL_RESOURCES/TECHNICAL_LITERATURE/DATASHEET/CD00281983.pdf; ComponentLink3Description: MP45DT01 Web Page; ComponentLink3URL: http://www.st.com/internet/analog/product/250942.jsp
footprint HLGA6-4.72X3.76X1.1 (LGA, 6-Leads, Body 4.72x3.72mm, Pitch 1.65mm)
pins: 1 GND (power), 2 LR (in), 3 GND (power), 4 CLK (in), 5 DOUT (out), 6 VDD (power)

## MP45DT01TR
designator U?
MEMS audio sensor, omni-directional digital microphone, -30 to +85°C, HLGA 4.72x3.76 6LD, Tape and Reel; Manufacturer: STMicroelectronics; DatasheetVersion: rev1, Aug-2010; PackageVersion: 2010; PackageReference: HLGA6-4.72X3.76X1.1; PackageDescription: 6-Lead Land Grid Array 4.72 x 3.72 x 1 mm Body, 1.65mm Pitch; ComponentLink1Description: Manufacturer URL; ComponentLink1URL: http://www.st.com/; ComponentLink2Description: MP45DT01 Datasheet; ComponentLink2URL: http://www.st.com/internet/com/TECHNICAL_RESOURCES/TECHNICAL_LITERATURE/DATASHEET/CD00281983.pdf; ComponentLink3Description: MP45DT01 Web Page; ComponentLink3URL: http://www.st.com/internet/analog/product/250942.jsp
footprint HLGA6-4.72X3.76X1.1 (LGA, 6-Leads, Body 4.72x3.72mm, Pitch 1.65mm)
pins: 1 GND (power), 2 LR (in), 3 GND (power), 4 CLK (in), 5 DOUT (out), 6 VDD (power)

## MP45DT02
designator U?
MEMS audio sensor, omnidirectional digital microphone, -30 to +85°C, HLGA 4.72x3.76 6LD, Tray; Manufacturer: STMicroelectronics; DatasheetVersion: rev1, Mar-2011; PackageVersion: 2011; PackageReference: HLGA6-4.72X3.76X1.375; PackageDescription: 6-Lead Land Grid Array 4.72 x 3.76 x 1.25 mm Body, 1.65mm Pitch; ComponentLink1Description: Manufacturer URL; ComponentLink1URL: http://www.st.com/; ComponentLink2Description: MP45DT02 Datasheet; ComponentLink2URL: http://www.st.com/internet/com/TECHNICAL_RESOURCES/TECHNICAL_LITERATURE/DATASHEET/DM00025467.pdf; ComponentLink3Description: MP45DT02 Web Page; ComponentLink3URL: http://www.st.com/internet/analog/product/251680.jsp
footprint HLGA6-4.72X3.76X1.375 (LGA, 6-Leads, Body 4.72x3.76mm, Pitch 1.65mm)
pins: 1 GND (power), 2 LR (in), 3 GND (power), 4 CLK (in), 5 DOUT (out), 6 VDD (power)

## MP45DT02TR
designator U?
MEMS audio sensor, omnidirectional digital microphone, -30 to +85°C, HLGA 4.72x3.76 6LD, Tape and Reel; Manufacturer: STMicroelectronics; DatasheetVersion: rev1, Mar-2011; PackageVersion: 2011; PackageReference: HLGA6-4.72X3.76X1.375; PackageDescription: 6-Lead Land Grid Array 4.72 x 3.76 x 1.25 mm Body, 1.65mm Pitch; ComponentLink1Description: Manufacturer URL; ComponentLink1URL: http://www.st.com/; ComponentLink2Description: MP45DT02 Datasheet; ComponentLink2URL: http://www.st.com/internet/com/TECHNICAL_RESOURCES/TECHNICAL_LITERATURE/DATASHEET/DM00025467.pdf; ComponentLink3Description: MP45DT02 Web Page; ComponentLink3URL: http://www.st.com/internet/analog/product/251680.jsp
footprint HLGA6-4.72X3.76X1.375 (LGA, 6-Leads, Body 4.72x3.76mm, Pitch 1.65mm)
pins: 1 GND (power), 2 LR (in), 3 GND (power), 4 CLK (in), 5 DOUT (out), 6 VDD (power)